# EAGLE library part LATCHIN_RELAY (library Anthony-Relay)
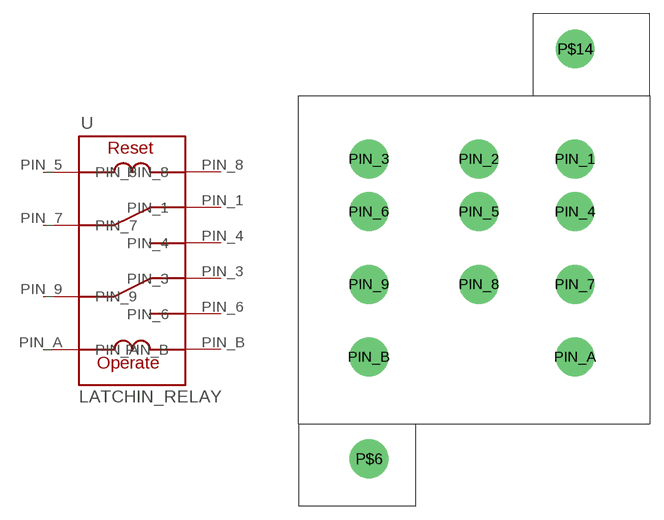
[diagram p1: symbol with the pads of 785XBXCD-12D; footprint 785XBXCD-12D]

Designator prefix -

## LATCHIN_RELAY  [785XBXCD-12D]
PIN_1  PIN_1
PIN_3  PIN_3
PIN_4  PIN_4
PIN_5  PIN_5
PIN_6  PIN_6
PIN_7  PIN_7
PIN_8  PIN_8
PIN_9  PIN_9
PIN_A  PIN_A
PIN_B  PIN_B

## Footprint 785XBXCD-12D (pad centres in mm)
drill 3.2 round: P$6 7.62,-3.81; P$14 29.972,40.64; PIN_1 29.972,28.702; PIN_2 19.558,28.702; PIN_3 7.62,28.702; PIN_4 29.972,22.987; PIN_5 19.558,22.987; PIN_6 7.62,22.987; PIN_7 29.972,15.113; PIN_8 19.558,15.113; PIN_9 7.62,15.113; PIN_A 29.972,7.239; PIN_B 7.62,7.239